# Altium footprint library HardWare.PcbLib: 173 footprints (part 3 of 11)
Each footprint in its own frame and in the unit in brackets; x right, y up, seen from the top. Pads: shape width x height; smd on the part's side, far side on the other; paste and mask are expansions set on the pad; w line width, h text height; cw(c..) or ccw(c..) is an arc to the next point about the centre after c.
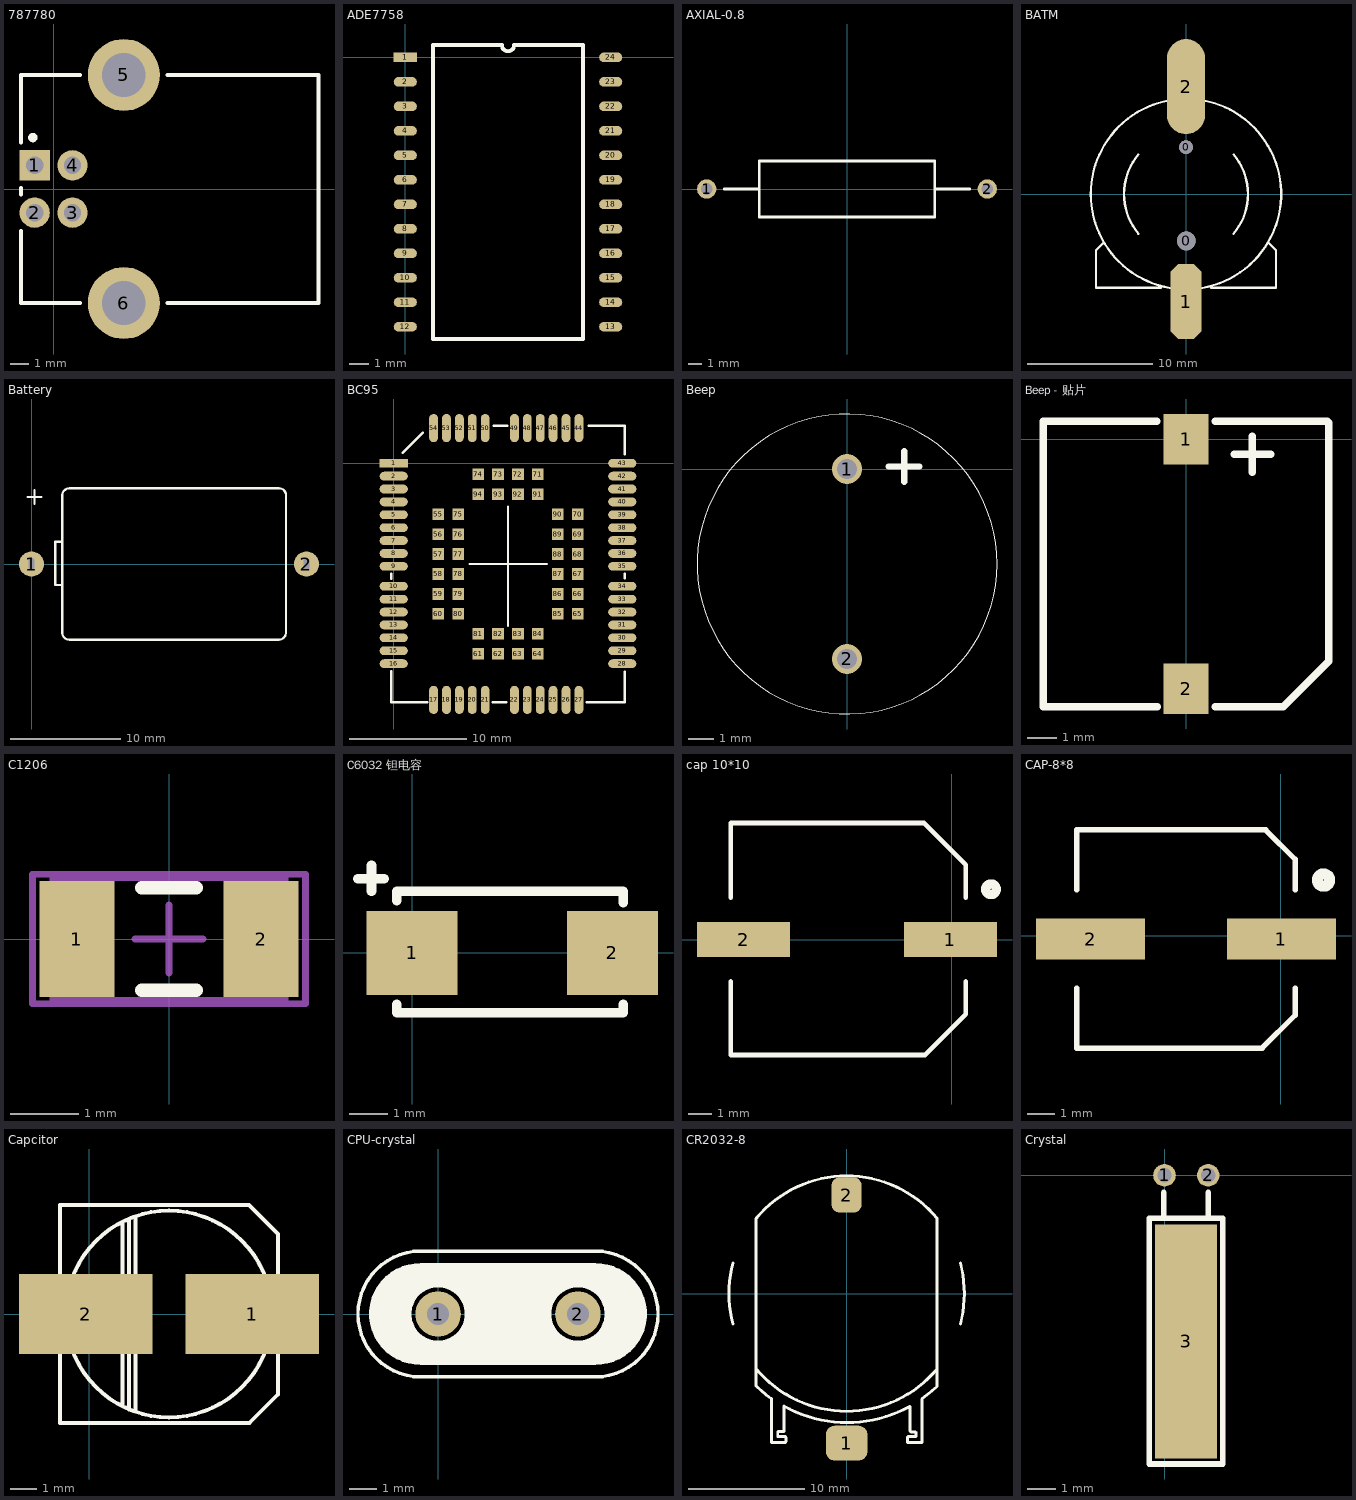
[diagram p2: the footprints below, top view; thin cyan lines are the x and y axes]

## 787780 [mm] "USB-B母方口插座 90度弯针"
height 10.75
pads (6):
  rect 1.6x1.6 hole 0.92: 1(-1,1.25)
  round 1.6 hole 0.92: 2(-1,-1.25) 3(1,-1.25) 4(1,1.25)
  round 3.8 hole 2.3: 5(3.71,6.02) 6(3.71,-6.02)
Top Overlay:
  circle w0.25: c-1.092,2.718 r0.125
  lines w0.2: -1.72,-2.21 -1.72,-6.02 1.41,-6.02 ; -1.72,-0.29 -1.72,0.05 ; -1.72,2.45 -1.72,6.02 1.41,6.02 ; 6.01,-6.02 13.99,-6.02 13.99,6.02 6.01,6.02

## ADE7758 [mm]
pads (24):
  rect 1.2x0.5 smd: 1(0,0)
  oval 1.2x0.5 smd: 2(0,-1.27) 3(0,-2.54) 4(0,-3.81) 5(0,-5.08) 6(0,-6.35) 7(0,-7.62) 8(0,-8.89) 9(0,-10.16) 10(0,-11.43) 11(0,-12.7) 12(0,-13.97) 13(10.65,-13.97) 14(10.65,-12.7) 15(10.65,-11.43) 16(10.65,-10.16) 17(10.65,-8.89) 18(10.65,-7.62) 19(10.65,-6.35) 20(10.65,-5.08) 21(10.65,-3.81) 22(10.65,-2.54) 23(10.65,-1.27) 24(10.65,0)
Top Overlay:
  lines w0.2: 1.435,-14.605 9.215,-14.605 9.215,0.635 5.642,0.635 cw(c5.325,0.635) 5.007,0.635 1.435,0.635 1.435,-14.605

## AXIAL-0.8 [mm] "Adjustable Inductor; 2 Leads"
height 4.064
pads (2):
  round 1.4 hole 0.85: 1(-10.16,0) 2(10.16,0)
Top Overlay:
  lines w0.2: -8.89,0 -6.35,0 ; 6.35,0 8.89,0 ; -6.35,-2.032 6.35,-2.032 6.35,2.032 -6.35,2.032 -6.35,-2.032

## BATM [mm] "纽"
height 1.6
pads (4):
  round 1.1 hole 1.1 unplated: 0(0,3.748)
  round 1.5 hole 1.5 unplated: 0(0.025,-3.752)
  oct 2.5x6 smd: 1(0,-8.602)
  oval 3.048x7.62 smd: 2(0,8.598)
Top Overlay:
  lines w0.178: -6.6,-3.902 -7.2,-4.502 -7.2,-7.502 -2,-7.502 ; -3.815,-3.171 cw(c0,-0.002) -3.812,3.171 ; -0.833,-7.576 cw(c0,-0.002) -7.62,-0.002 cw(c0,-0.002) -0.833,7.573 ; 0.833,-7.576 ccw(c0,-0.002) 0.833,7.573 ; 2,-7.502 7.2,-7.502 7.2,-4.502 6.625,-3.927 ; 3.81,-3.177 ccw(c0,-0.002) 3.812,3.171

## Battery [mil]
height 551.18
pads (2):
  round 90 hole 20 slot 43.31 at 90 deg: 1(0,0) 2(984.25,0)
Top Overlay:
  lines w7.87: -15,240 35,240 ; 10,215 10,265 ; 910.76,-244.67 cw(c885.78,-245.77) 885,-270.76 136.08,-270.76 cw(c134.99,-245.78) 110,-245 110,-75 ; 911,-244.67 911,245.33 ; 911.08,245.33 ccw(c886.1,246.11) 885,271.08 135.76,271.08 ccw(c134.98,246.1) 110,245 110,80 ; 110,-75 110,80 ; 110,-75 85,-75 85,0 85,80 110,80

## BC95 [mm]
pads (94):
  rect 2.4x0.75 smd: 1(0,0)
  oval 2.4x0.75 smd: 2(0,-1.1) 3(0,-2.2) 4(0,-3.3) 5(0,-4.4) 6(0,-5.5) 7(0,-6.6) 8(0,-7.7) 9(0,-8.8) 10(0,-10.5) 11(0,-11.6) 12(0,-12.7) 13(0,-13.8) 14(0,-14.9) 15(0,-16) 16(0,-17.1) 28(19.5,-17.1) 29(19.5,-16) 30(19.5,-14.9) 31(19.5,-13.8) 32(19.5,-12.7) 33(19.5,-11.6) 34(19.5,-10.5) 35(19.5,-8.8) 36(19.5,-7.7) 37(19.5,-6.6) 38(19.5,-5.5) 39(19.5,-4.4) 40(19.5,-3.3) 41(19.5,-2.2) 42(19.5,-1.1) 43(19.5,0)
  oval 0.75x2.4 smd: 17(3.4,-20.199) 18(4.5,-20.199) 19(5.6,-20.199) 20(6.7,-20.199) 21(7.8,-20.199) 22(10.3,-20.199) 23(11.4,-20.199) 24(12.5,-20.199) 25(13.6,-20.199) 26(14.7,-20.199) 27(15.8,-20.199) 44(15.8,3) 45(14.7,3) 46(13.6,3) 47(12.5,3) 48(11.4,3) 49(10.3,3) 50(7.8,3) 51(6.7,3) 52(5.6,3) 53(4.5,3) 54(3.4,3)
  rect 1x1 smd: 55(3.799,-4.35) 56(3.799,-6.05) 57(3.799,-7.75) 58(3.799,-9.45) 59(3.799,-11.15) 60(3.799,-12.85) 61(7.2,-16.249) 62(8.9,-16.249) 63(10.6,-16.249) 64(12.3,-16.249) 65(15.7,-12.85) 66(15.7,-11.15) 67(15.7,-9.45) 68(15.7,-7.75) 69(15.7,-6.05) 70(15.7,-4.35) 71(12.3,-0.95) 72(10.6,-0.95) 73(8.9,-0.95) 74(7.2,-0.95) 75(5.5,-4.35) 76(5.5,-6.05) 77(5.5,-7.75) 78(5.5,-9.45) 79(5.5,-11.15) 80(5.5,-12.85) 81(7.2,-14.55) 82(8.9,-14.55) 83(10.6,-14.55) 84(12.3,-14.55) 85(14,-12.85) 86(14,-11.15) 87(14,-9.45) 88(14,-7.75) 89(14,-6.05) 90(14,-4.35) 91(12.3,-2.65) 92(10.6,-2.65) 93(8.9,-2.65) 94(7.2,-2.65)
Top Overlay:
  lines w0.2: -0.2,-17.732 -0.2,-20.4 2.848,-20.399 ; -0.2,-9.884 -0.2,-9.423 ; 0.757,0.881 2.492,2.616 ; 6.477,-8.6 13.056,-8.6 ; 8.461,-20.4 9.604,-20.4 ; 8.512,3.2 9.681,3.2 ; 9.75,-13.868 9.75,-3.708 ; 16.462,-20.4 19.7,-20.4 19.7,-17.783 ; 16.615,3.2 19.637,3.2 ; 19.7,-9.833 19.7,-9.423 ; 19.7,0.762 19.7,3.2

## Beep [mm]
height 9.6
pads (2):
  round 1.2 hole 0.8: 1(0,0) 2(0,-7.6)
Top Overlay:
  circle w0.025: c0,-3.8 r6
  lines w0.254: 1.676,0.102 2.896,0.102 ; 2.286,-0.508 2.286,0.711

## Beep - 贴片 [mm] "9.6*9.6mm"
height 5.5
pads (2):
  rect 1.5x1.7 smd: 1(0,0) 2(0,-8.4)
Top Overlay:
  lines w0.254: -4.8,-9 -0.975,-9 ; -4.8,-8.992 -4.8,0.6 -0.981,0.6 ; 0.986,-9 3.277,-9 ; 0.988,0.6 4.75,0.6 ; 1.626,-0.508 2.845,-0.508 ; 2.235,-1.118 2.235,0.102 ; 3.2,-9 3.268,-9 4.8,-7.468 4.8,0.559

## C1206 [mm] "Chip Capacitor, Body 3.2x1.6mm, IPC High Density"
height 1.3
pads (2):
  rect 1.1x1.7 smd: 1(-1.35,0) 2(1.35,0)
Top Overlay:
  lines w0.2: -0.4,-0.75 0.4,-0.75 ; -0.4,0.75 0.4,0.75
Mechanical 13:
  lines w0.1: -1.7,-0.9 -1.7,0.9 1.7,0.9 1.7,-0.9 -1.7,-0.9
Mechanical 15:
  lines w0.1: -0.5,0 0.5,0 ; 0,-0.5 0,0.5 ; -2,-0.95 -2,0.95 2,0.95 2,-0.95 -2,-0.95
3D body: height 1.3, standoff 0, extent -1.7,-0.9 1.7,0.9

## C6032 钽电容 [mm] "100uf"
height 2.6
pads (2):
  rect 2.4x2.2 smd: 1(0,0) 2(5.275,0)
Top Overlay:
  lines w0.254: -1.422,1.956 -0.737,1.956 ; -1.067,1.626 -1.067,2.311 ; -0.406,-1.346 -0.406,-1.575 5.563,-1.575 5.563,-1.346 ; -0.406,1.372 -0.406,1.626 5.563,1.626 5.563,1.321

## cap 10*10 [mm]
pads (2):
  rect 4x1.5 smd: 1(-0.062,0) 2(-8.941,0)
Top Overlay:
  circle w0.4: c1.678,2.159 r0.227
  lines w0.199: -1.19,5 0.602,3.208 ; -1.143,-4.953 0.602,-3.208
  lines w0.2: -9.498,-1.8 -9.498,-4.953 -1.143,-4.953 ; -9.498,1.8 -9.498,4.953 ; -9.498,5 -1.19,5 ; 0.602,-3.208 0.602,-1.8 ; 0.602,1.8 0.602,3.208

## CAP-8*8 [mm]
pads (2):
  rect 4x1.5 smd: 1(0.027,-0.127) 2(-6.966,-0.127)
Top Overlay:
  circle w0.4: c1.57,2.032 r0.227
  lines w0.199: -1.174,-4.127 -0.679,-4.127 0.527,-2.921 0.527,-2.667 ; -0.552,3.873 0.534,2.787
  lines w0.2: -7.466,-1.927 -7.466,-4.127 -1.174,-4.127 ; -7.466,1.673 -7.466,3.873 -0.552,3.873 ; 0.534,-2.667 0.534,-1.927 ; 0.534,1.673 0.534,2.787

## Capcitor [mil]
pads (2):
  rect 200x120 smd: 1(245,0) 2(-5,0)
Top Overlay:
  lines w6: -43.39,-55.35 -43.39,-163.39 230,-163.39 240.39,-163.39 283.39,-120.39 283.39,-96 ; -43.39,51.3 -43.39,163.39 235,163.39 240,163.39 283.39,120 283.39,50 ; -25.65,-53.01 ccw(c120,0) 265.65,-53.01 ; -25.65,53.01 cw(c120,0) 265.65,53.01 ; 50,-138 50,137 ; 60,-143 60,140 ; 70,-145 70,144 ; 283.39,-115 283.39,-50

## CPU-crystal [mil] "8MHz"
height 236.22
pads (2):
  round 65 hole 31.5: 1(0,0) 2(200,0)
Top Overlay:
  circle w30: c0,0 r53.15
  circle w30: c200,0 r53.15
  rectangle: 45.04,-65 155.04,70
  lines w5: -25.12,-90 cw(c-24.41,0) -25.12,90 225.12,90 cw(c224.41,0) 225.12,-90 -25.12,-90
  lines w8: -24.14,68.9 ccw(c-25.59,0) -24.02,-68.9 224.14,-68.9 ccw(c225.59,0) 224.02,68.9 -24.14,68.9
  lines w30: -80,-10 cw(c-20.13,-5.99) -20,54.01 ; -79.01,5 ccw(c-19.01,4.87) -15,-55 ; 15.99,55 cw(c20,-4.87) 80,-5 ; 20,-55 ccw(c20.13,5) 80,9.01 ; 120,-9.01 cw(c179.87,-5) 180,55 ; 120.99,5 ccw(c180.99,4.87) 185,-55 ; 215,55 cw(c219.01,-4.87) 279.01,-5 ; 220,-54.01 ccw(c220.13,5.99) 280,10
3D body "User Library-SMU-4.STEP": height 157.48, standoff 0, extent -147.64,-94.49 344.49,94.49

## CR2032-8 [mm] "东莞市科宇塑胶五金有限公司"
height 5.3
pads (2):
  rrect50% 3.6x3 smd: 1(0,-12.9)
  rrect50% 2.6x3 smd: 2(0,8.5)
Top Overlay:
  lines w0.254: -9.804,-2.627 cw(c0,0) -9.804,2.627 ; -7.8,-7.95 -7.8,6.477 ; -7.795,-7.972 ccw(c0,0) -6.51,-9.052 ; -7.795,-6.5 ccw(c0,0) 7.795,-6.5 ; -7.795,6.5 cw(c0,0) 7.795,6.5 ; -6.5,-9.068 -6.5,-12.827 -5.281,-12.827 -5.23,-12.776 -5.23,-12.395 -5.281,-12.344 -5.916,-12.344 -5.941,-12.319 -5.941,-11.938 -5.916,-11.913 -5.408,-11.913 -5.408,-9.708 ; -5.388,-9.708 ccw(c0.051,0.025) 5.44,-9.736 ; 5.461,-9.736 5.461,-11.862 5.537,-11.938 5.944,-11.938 5.994,-11.989 5.994,-12.344 5.283,-12.344 5.232,-12.395 5.232,-12.827 6.5,-12.827 6.5,-9.078 ccw(c0.061,0.025) 7.786,-8.015 ; 7.8,-8.001 7.8,6.477 ; 9.804,-2.627 ccw(c0,0) 9.804,2.627

## Crystal [mm] "32.768KHz"
pads (3):
  round 0.8 hole 0.5: 1(0,0) 2(1.549,0)
  rect 2.2x8.3 smd: 3(0.762,-5.893)
Top Overlay:
  lines w0.203: -0.025,-1.524 -0.025,-0.61 ; 1.549,-1.524 1.549,-0.61 ; -0.538,-10.236 -0.538,-1.524 2.062,-1.524 2.062,-10.236 -0.538,-10.236